# Altium footprint library LED_MATRIX_8X16_MONO_R1.PcbLib: 15 footprints
Each footprint in its own frame and in the unit in brackets; x right, y up, seen from the top. Pads: shape width x height; smd on the part's side, far side on the other; paste and mask are expansions set on the pad; w line width, h text height; cw(c..) or ccw(c..) is an arc to the next point about the centre after c.
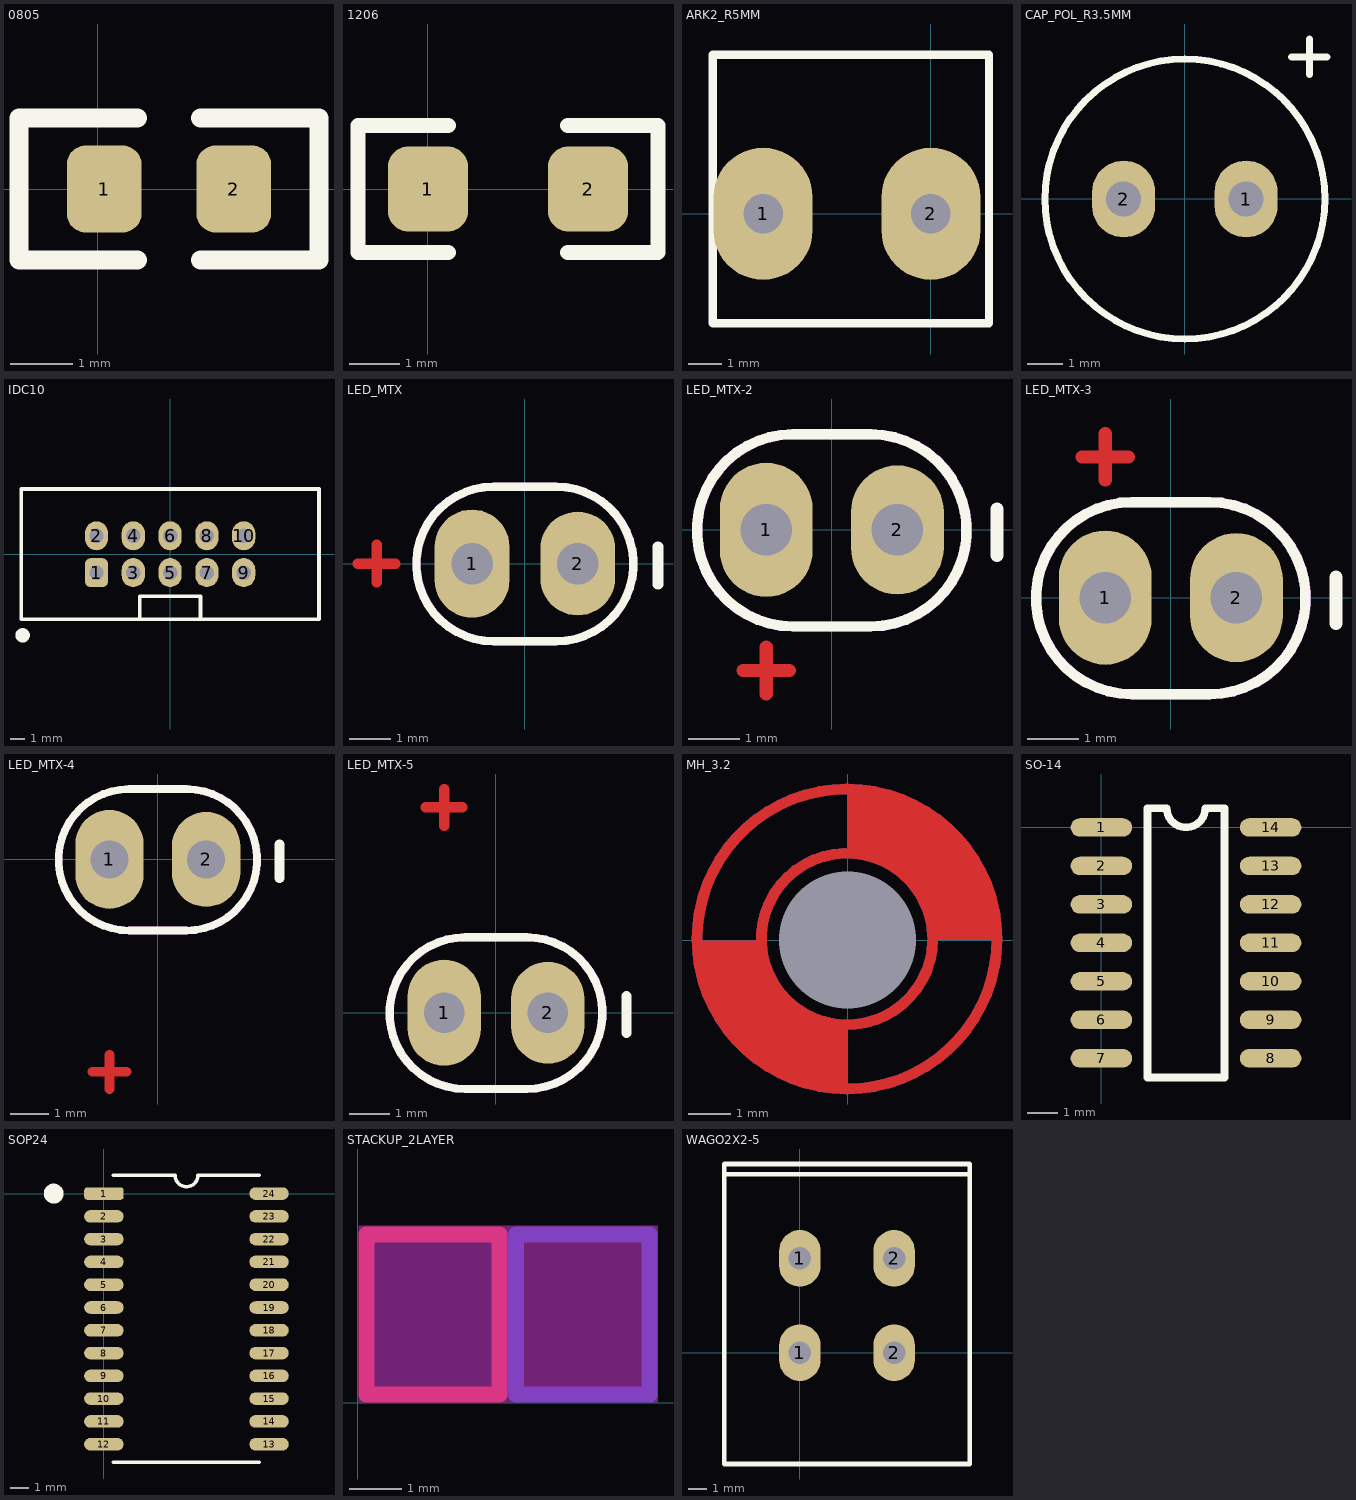
[diagram p0: the footprints below, top view; thin cyan lines are the x and y axes]

## 0805 [mm]
pads (2):
  rrect50% 1.2x1.4 smd: 1(0.1,0) 2(2.186,0)
Top Overlay:
  lines w0.305: 0.635,-1.143 -1.27,-1.143 -1.27,1.143 0.635,1.143 ; 1.651,-1.143 3.556,-1.143 3.556,1.143 1.651,1.143
3D body "RESC2012X40.step": height 0.4, standoff 0, extent 0.143,-0.6 2.143,0.6

## 1206 [mm]
pads (2):
  rrect50% 1.6x1.7 smd: 1(0,0) 2(3.2,0)
Top Overlay:
  lines w0.305: 0.405,-1.27 -1.4,-1.27 -1.4,1.27 0.405,1.27 ; 2.795,-1.27 4.6,-1.27 4.6,1.27 2.795,1.27
3D body "CAP1206.step": height 0.79, standoff 0.01, extent 0,-0.8 3.2,0.8

## ARK2_R5MM [mm]
pads (2):
  oval 3x4 hole 1.2: 1(-5.08,0) 2(0,0)
Top Overlay:
  lines w0.254: -6.597,-3.314 1.757,-3.314 1.757,4.814 -6.597,4.814 -6.597,-3.314

## CAP_POL_R3.5MM [mm]
pads (2):
  oval 1.8x2.2 hole 1: 1(1.757,-0.012) 2(-1.743,-0.012)
Top Overlay:
  circle w0.2: c0.007,-0.012 r4
  lines w0.2: 3.055,4.052 4.071,4.052 ; 3.563,3.544 3.563,4.56

## IDC10 [mm]
pads (10):
  rrect50% 1.6x2 hole 1: 1(-5.09,-1.261)
  oval 1.6x2 hole 1: 2(-5.09,1.279) 3(-2.55,-1.261) 4(-2.55,1.279) 5(-0.01,-1.261) 6(-0.01,1.279) 7(2.53,-1.261) 8(2.53,1.279) 9(5.07,-1.261) 10(5.07,1.279)
Top Overlay:
  circle w0.5: c-10.19,-5.591 r0.25
  lines w0.25: -2.11,-4.491 -2.11,-2.891 2.09,-2.891 2.09,-4.491 ; -10.29,-4.491 -10.29,4.509 10.27,4.509 10.27,-4.491 -10.29,-4.491
3D body "61201021621.stp": height 9.13, standoff -2.98, extent -10.19,-4.416 10.17,4.759

## LED_MTX [mm]
pads (2):
  oval 1.8x2.6 hole 1: 1(-1.27,0)
  oval 1.8x2.5 hole 1: 2(1.27,0)
Top Layer:
  lines w0.254: -4.013,0 -3.113,0 ; -3.563,-0.45 -3.563,0.45
Top Overlay:
  lines w0.2: -0.75,-1.872 cw(c-0.75,-0.011) -0.75,1.85 0.75,1.85 cw(c0.75,-0.011) 0.75,-1.872 -0.75,-1.872
  lines w0.254: 3.2,-0.5 3.2,0.4
Mechanical 1:
  lines w0.2: -0.745,-1.872 cw(c-0.745,-0.011) -0.745,1.85 0.755,1.85 cw(c0.755,-0.011) 0.755,-1.872 -0.745,-1.872
3D body "LED_oval.step": height 7.3, standoff -4.2, extent -2.1,-1.596 2.1,1.596

## LED_MTX-2 [mm]
pads (2):
  oval 1.8x2.6 hole 1: 1(-1.27,0)
  oval 1.8x2.5 hole 1: 2(1.27,0)
Top Layer:
  lines w0.254: -1.72,-2.725 -0.82,-2.725 ; -1.27,-3.175 -1.27,-2.275
Top Overlay:
  lines w0.2: -0.75,-1.872 cw(c-0.75,-0.011) -0.75,1.85 0.75,1.85 cw(c0.75,-0.011) 0.75,-1.872 -0.75,-1.872
  lines w0.254: 3.2,-0.5 3.2,0.4
Mechanical 1:
  lines w0.2: -0.745,-1.872 cw(c-0.745,-0.011) -0.745,1.85 0.755,1.85 cw(c0.755,-0.011) 0.755,-1.872 -0.745,-1.872
3D body "LED_oval.step": height 7.3, standoff -4.2, extent -2.1,-1.596 2.1,1.596

## LED_MTX-3 [mm]
pads (2):
  oval 1.8x2.6 hole 1: 1(-1.27,0)
  oval 1.8x2.5 hole 1: 2(1.27,0)
Top Layer:
  lines w0.254: -1.72,2.725 -0.82,2.725 ; -1.27,2.275 -1.27,3.175
Top Overlay:
  lines w0.2: -0.75,-1.872 cw(c-0.75,-0.011) -0.75,1.85 0.75,1.85 cw(c0.75,-0.011) 0.75,-1.872 -0.75,-1.872
  lines w0.254: 3.2,-0.5 3.2,0.4
Mechanical 1:
  lines w0.2: -0.745,-1.872 cw(c-0.745,-0.011) -0.745,1.85 0.755,1.85 cw(c0.755,-0.011) 0.755,-1.872 -0.745,-1.872
3D body "LED_oval.step": height 7.3, standoff -4.2, extent -2.1,-1.596 2.1,1.596

## LED_MTX-4 [mm]
pads (2):
  oval 1.8x2.6 hole 1: 1(-1.27,0)
  oval 1.8x2.5 hole 1: 2(1.27,0)
Top Layer:
  lines w0.254: -1.72,-5.588 -0.82,-5.588 ; -1.27,-6.038 -1.27,-5.138
Top Overlay:
  lines w0.2: -0.75,-1.872 cw(c-0.75,-0.011) -0.75,1.85 0.75,1.85 cw(c0.75,-0.011) 0.75,-1.872 -0.75,-1.872
  lines w0.254: 3.2,-0.5 3.2,0.4
Mechanical 1:
  lines w0.2: -0.745,-1.872 cw(c-0.745,-0.011) -0.745,1.85 0.755,1.85 cw(c0.755,-0.011) 0.755,-1.872 -0.745,-1.872
3D body "LED_oval.step": height 7.3, standoff -4.2, extent -2.1,-1.596 2.1,1.596

## LED_MTX-5 [mm]
pads (2):
  oval 1.8x2.6 hole 1: 1(-1.27,0)
  oval 1.8x2.5 hole 1: 2(1.27,0)
Top Layer:
  lines w0.254: -1.72,5.036 -0.82,5.036 ; -1.27,4.586 -1.27,5.486
Top Overlay:
  lines w0.2: -0.75,-1.872 cw(c-0.75,-0.011) -0.75,1.85 0.75,1.85 cw(c0.75,-0.011) 0.75,-1.872 -0.75,-1.872
  lines w0.254: 3.2,-0.5 3.2,0.4
Mechanical 1:
  lines w0.2: -0.745,-1.872 cw(c-0.745,-0.011) -0.745,1.85 0.755,1.85 cw(c0.755,-0.011) 0.755,-1.872 -0.745,-1.872
3D body "LED_oval.step": height 7.3, standoff -4.2, extent -2.1,-1.596 2.1,1.596

## MH_3.2 [mm]
pads (1):
  round 0 hole 3.2 unplated: 0(0,0)
Top Layer:
  circle w0.25: c-0.012,0.025 r3.5
  circle w0.25: c-0.012,0.025 r2
  lines w0.25: -3.5,-0.13 -2.03,-0.13 ; -3.45,-0.3 -2.04,-0.3 ; -0.31,-3.4 -0.31,-1.99 ; -0.12,-3.45 -0.12,-1.98 ; 0.13,2.04 0.13,3.51 ; 2,0.13 3.47,0.13
  lines w0.4: -3.25,-0.73 -3.25,-0.26 ; -0.75,-3.2 -0.28,-3.2 ; 0.29,3.29 0.55,3.29 ; 3.26,0.29 3.26,0.55
  lines w1.7: -2.599,-0.87 ccw(c0.004,0.017) -0.867,-2.591 ; 0.88,2.599 cw(c0.004,-0.008) 2.611,0.867
Bottom Layer:
  circle w0.25: c-0.012,0.025 r3.5
  circle w0.25: c-0.012,0.025 r2
  lines w0.25: -3.5,-0.13 -2.03,-0.13 ; -3.45,-0.3 -2.04,-0.3 ; -0.31,-3.4 -0.31,-1.99 ; -0.12,-3.45 -0.12,-1.98 ; 0.13,2.04 0.13,3.51 ; 2,0.13 3.47,0.13
  lines w0.4: -3.25,-0.73 -3.25,-0.26 ; -0.75,-3.2 -0.28,-3.2 ; 0.29,3.29 0.55,3.29 ; 3.26,0.29 3.26,0.55
  lines w1.7: -2.599,-0.87 ccw(c0.004,0.017) -0.867,-2.591 ; 0.88,2.599 cw(c0.004,-0.008) 2.611,0.867

## SO-14 [mil]
pads (14):
  oval 80x24 smd: 1(0,0) 2(0,-50) 3(0,-100) 4(0,-150) 5(0,-200) 6(0,-250) 7(0,-300) 8(220,-300) 9(220,-250) 10(220,-200) 11(220,-150) 12(220,-100) 13(220,-50) 14(220,0)
Top Overlay:
  lines w10: 60,-325 160,-325 160,25 135,25 cw(c110,25) 85,25 60,25 60,-325

## SOP24 [mm]
pads (24):
  rrect50% 2.2x0.7 smd: 1(0.001,0.003)
  oval 2.2x0.7 smd: 2(0.001,-1.267) 3(0.001,-2.537) 4(0.001,-3.807) 5(0.001,-5.077) 6(0.001,-6.347) 7(0.001,-7.617) 8(0.001,-8.887) 9(0.001,-10.157) 10(0.001,-11.427) 11(0.001,-12.697) 12(0.001,-13.967) 13(9.201,-13.967) 14(9.201,-12.697) 15(9.201,-11.427) 16(9.201,-10.157) 17(9.201,-8.887) 18(9.201,-7.617) 19(9.201,-6.347) 20(9.201,-5.077) 21(9.201,-3.807) 22(9.201,-2.537) 23(9.201,-1.267) 24(9.201,0.003)
Top Overlay:
  circle w0.6: c-2.794,0 r0.254
  lines w0.2: 0.536,-14.978 8.666,-14.978 ; 0.536,1.015 3.966,1.015 ccw(c4.601,1.015) 5.236,1.015 8.666,1.015

## STACKUP_2LAYER [mm]
Top Layer:
  lines w0.305: 0.165,0.16 2.705,0.16 2.705,3.208 0.165,3.208 0.165,0.16
  text "1" at 1.181,0.922 h1.5
Bottom Layer:
  lines w0.305: 3.016,0.155 3.016,3.203 5.556,3.203 5.556,0.155 3.016,0.155
  text "2" at 3.745,0.921 h1.5
Top Solder:
  rectangle: 2.861,-0.001 5.721,3.379
Bottom Solder:
  rectangle: 0.006,-0.001 2.86,3.369
Keep-Out Layer:
  region: 0.011,3.38 0.011,0.005 5.72,0.005 5.72,3.38

## WAGO2X2-5 [mm]
pads (4):
  oval 2.2x3 hole 1.2: 1(0,0) 1(0,5) 2(5,0) 2(5,5)
Top Overlay:
  lines w0.25: -4,9.45 9,9.45 ; -4,-5.9 9,-5.9 9,10 -4,10 -4,-5.9